# Altium schematic symbol library ISD17XX.SchLib: 1 symbol
Pins are listed as number, name and electrical type; pins without a type are passive.

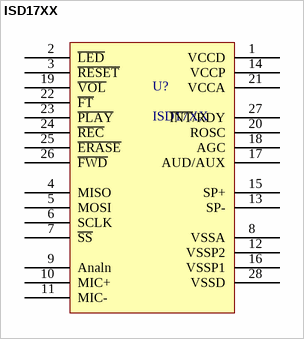
[diagram p0: symbol ISD17XX]

## ISD17XX
designator U?
footprint SOIC-28 (SOIC, 28-Leads, Body 17.93x6.00mm, Pitch 1.27mm, IPC Medium Density)
footprint DIP28w
pins: 1 VCCD, 2 ~{LED}, 3 ~{RESET}, 4 MISO, 5 MOSI, 6 SCLK, 7 ~{SS}, 8 VSSA, 9 Analn, 10 MIC+, 11 MIC-, 12 VSSP2, 13 SP-, 14 VCCP, 15 SP+, 16 VSSP1, 17 AUD/AUX, 18 AGC, 19 ~{VOL}, 20 ROSC, 21 VCCA, 22 ~{FT}, 23 ~{PLAY}, 24 ~{REC}, 25 ~{ERASE}, 26 ~{FWD}, 27 ~{INT}/RDY, 28 VSSD